# Altium footprint library EN-C200_RA0.PcbLib: 31 footprints (part 1 of 2)
Each footprint in its own frame and in the unit in brackets; x right, y up, seen from the top. Pads: shape width x height; smd on the part's side, far side on the other; paste and mask are expansions set on the pad; w line width, h text height; cw(c..) or ccw(c..) is an arc to the next point about the centre after c.
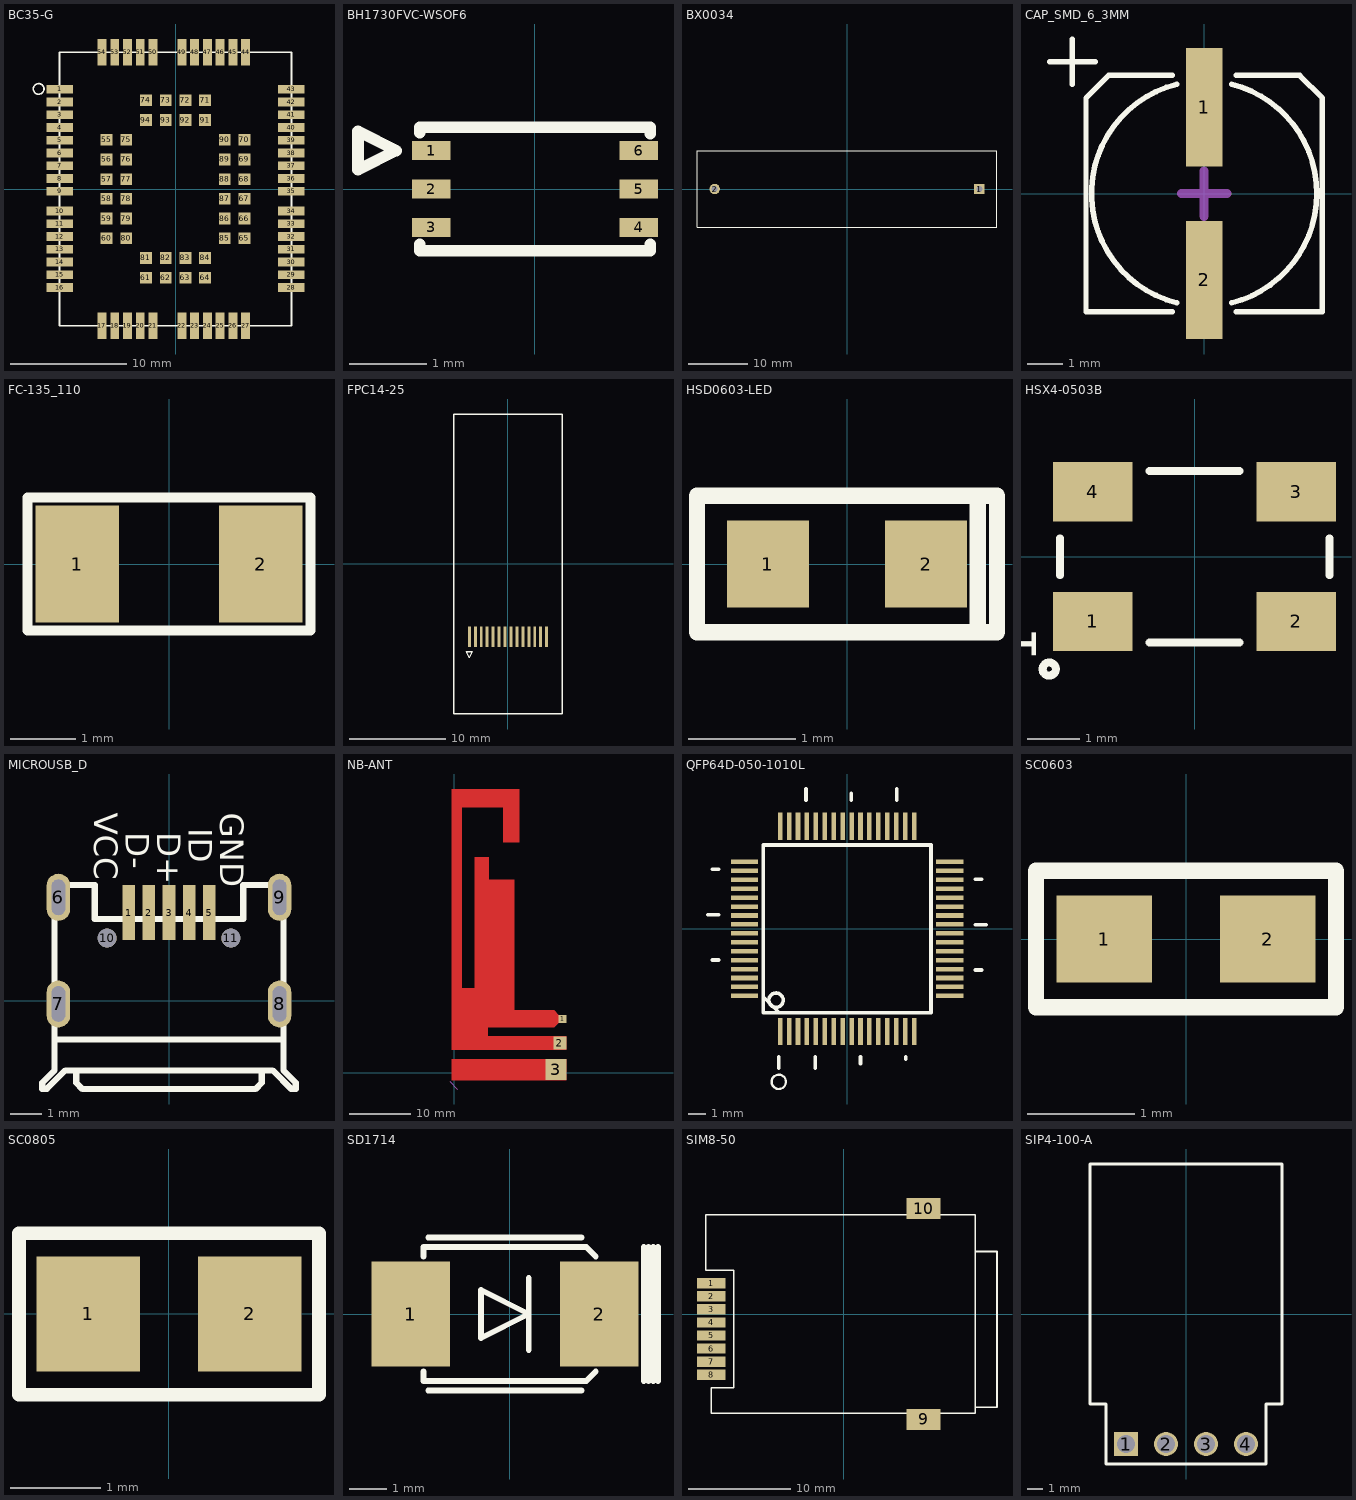
[diagram p0: the footprints below, top view; thin cyan lines are the x and y axes]

## BC35-G [mil] "BC35-G"
pads (94):
  rect 90x30 smd: 1(-393.7,338.58) 2(-393.7,295.28) 3(-393.7,251.97) 4(-393.7,208.66) 5(-393.7,165.35) 6(-393.7,122.05) 7(-393.7,78.74) 8(-393.7,35.43) 9(-393.7,-7.87) 10(-393.7,-74.8) 11(-393.7,-118.11) 12(-393.7,-161.42) 13(-393.7,-204.72) 14(-393.7,-248.03) 15(-393.7,-291.34) 16(-393.7,-334.65) 28(393.7,-334.65) 29(393.7,-291.34) 30(393.7,-248.03) 31(393.7,-204.72) 32(393.7,-161.42) 33(393.7,-118.11) 34(393.7,-74.8) 35(393.7,-7.87) 36(393.7,35.43) 37(393.7,78.74) 38(393.7,122.05) 39(393.7,165.35) 40(393.7,208.66) 41(393.7,251.97) 42(393.7,295.28) 43(393.7,338.58)
  rect 30x90 smd: 17(-250,-464.57) 18(-206.69,-464.57) 19(-163.39,-464.57) 20(-120.08,-464.57) 21(-76.77,-464.57) 22(21.65,-464.57) 23(64.96,-464.57) 24(108.27,-464.57) 25(151.57,-464.57) 26(194.88,-464.57) 27(238.19,-464.57) 44(238.19,464.57) 45(194.88,464.57) 46(151.57,464.57) 47(108.27,464.57) 48(64.96,464.57) 49(21.65,464.57) 50(-76.77,464.57) 51(-120.08,464.57) 52(-163.39,464.57) 53(-206.69,464.57) 54(-250,464.57)
  rect 40x40 smd: 55(-234.25,167.32) 56(-234.25,100.39) 57(-234.25,33.47) 58(-234.25,-33.47) 59(-234.25,-100.39) 60(-234.25,-167.32) 61(-100.39,-301.18) 62(-33.47,-301.18) 63(33.47,-301.18) 64(100.39,-301.18) 65(234.25,-167.32) 66(234.25,-100.39) 67(234.25,-33.47) 68(234.25,33.47) 69(234.25,100.39) 70(234.25,167.32) 71(100.39,301.18) 72(33.47,301.18) 73(-33.47,301.18) 74(-100.39,301.18) 75(-167.32,167.32) 76(-167.32,100.39) 77(-167.32,33.47) 78(-167.32,-33.47) 79(-167.32,-100.39) 80(-167.32,-167.32) 81(-100.39,-234.25) 82(-33.47,-234.25) 83(33.47,-234.25) 84(100.39,-234.25) 85(167.32,-167.32) 86(167.32,-100.39) 87(167.32,-33.47) 88(167.32,33.47) 89(167.32,100.39) 90(167.32,167.32) 91(100.39,234.25) 92(33.47,234.25) 93(-33.47,234.25) 94(-100.39,234.25)
Top Overlay:
  circle w6: c-465,340 r18.03
  lines w6: -393.7,-464.57 393.7,-464.57 393.7,464.57 -393.7,464.57 -393.7,-464.57

## BH1730FVC-WSOF6 [mm] "BH1730FVC-WSOF6"
pads (6):
  rect 0.5x0.25 smd: 1(-1.35,0.5) 2(-1.35,0) 3(-1.35,-0.5) 4(1.35,-0.5) 5(1.35,0) 6(1.35,0.5)
Top Overlay:
  lines w0.15: -1.5,-0.72 -1.5,-0.8 1.5,-0.8 1.5,-0.72 ; -1.5,0.73 -1.5,0.8 1.5,0.8 1.5,0.72 ; -2.3,0.25 -2.3,0.75 -1.8,0.5 -2.3,0.25

## BX0034 [mil] "BX0034"
pads (2):
  rect 70x70 / inner round 60 / far side round 60 hole 40: 1(885.83,0)
  round 70 / inner round 60 / far side round 60 hole 40: 2(-885.83,0)
Top Overlay:
  lines w6: -1003.94,-255.91 1003.94,-255.91 1003.94,255.91 -1003.94,255.91 -1003.94,-255.91

## CAP_SMD_6_3MM [mil] "CAP_SMD_6_3MM"
pads (2):
  rect 40x130 smd: 1(0,95) 2(0,-95)
Top Overlay:
  lines w6: -170,145 -120,145 ; -145,120 -145,170 ; -35,-130 -130,-130 -130,105 -105,130 -35,130 ; -30.07,-120.3 cw(c0,0) -30.07,120.3 ; 30.07,-120.3 ccw(c0,0) 124,0 ccw(c0,0) 30.07,120.3 ; 35,-130 130,-130 130,105 105,130 35,130
Mechanical 16:
  lines w10: -25,0 25,0 ; 0,-25 0,25

## FC-135_110 [mil] "FC-135_110"
pads (2):
  rect 50x70 smd: 1(-55,0) 2(55,0)
Top Overlay:
  lines w6: -85,-40 85,-40 85,40 -85,40 -85,-40

## FPC14-25 [mil] "FPC14-25"
pads (14):
  rect 12x85 smd: 1(-158.66,-300.2) 2(-134.25,-300.2) 3(-109.84,-300.2) 4(-85.43,-300.2) 5(-61.02,-300.2) 6(-36.61,-300.2) 7(-12.21,-300.2) 8(12.21,-300.2) 9(36.61,-300.2) 10(61.02,-300.2) 11(85.43,-300.2) 12(109.84,-300.2) 13(134.25,-300.2) 14(158.66,-300.2)
Top Overlay:
  lines w6: -222.05,-617.52 222.05,-617.52 222.05,615.16 -222.05,615.16 -222.05,-617.52 ; -170.87,-361.22 -146.46,-361.22 -158.66,-385.63 -170.87,-361.22

## HSD0603-LED [mil] "HSD0603-LED"
pads (2):
  rect 30x32 smd: 1(-29,0) 2(29,0)
Top Overlay:
  lines w6: 48,-25 48,25 ; -55,-25 -55,25 55,25 55,-25 -55,-25

## HSX4-0503B [mil] "HSX4-0503B"
pads (4):
  rect 60x45 smd: 1(-77,-49) 2(77,-49) 3(77,49) 4(-77,49)
Top Overlay:
  circle w6: c-110,-85 r5
  lines w6: -102,-14 -102,14 ; -34,-65 34,-65 ; -34,65 34,65 ; 102,-14 102,14
  text "1" at -120,-80 h30

## MICROUSB_D [mm] "MICROUSB_D"
pads (11):
  rect 0.406x1.778 smd: 1(-1.3,2.85) 2(-0.65,2.85) 3(0,2.85) 4(0.65,2.85) 5(1.3,2.85)
  oval 0.762x1.524 / inner round 1.524 / far side round 1.524 hole 1.15 slot 0.45 at 0 deg: 6(-3.575,3.35) 7(-3.575,-0.1) 8(3.575,-0.1) 9(3.575,3.35)
  round 0.61 / inner round 1.524 / far side round 1.524 hole 0.61 unplated: 10(-2,2.03) 11(2,2.03)
Top Overlay:
  lines w0.2: -3.7,3.75 -3.7,-2.25 -4.1,-2.65 -4.1,-2.85 -3.95,-2.85 -3.35,-2.25 3,-2.25
  lines w0.203: -3.7,-1.25 3.7,-1.25 ; -3.7,3.75 -2.4,3.75 -2.4,2.65 2.4,2.65 2.4,3.75 3.701,3.75 3.701,-2.251 4.101,-2.651 4.101,-2.851 3.951,-2.851 3.351,-2.251 3,-2.25 3,-2.65 2.8,-2.85 -2.8,-2.85 -3,-2.65 -3,-2.25
  text "VCC" at -2.413,6.09 h0.76
  text "ID" at 0.635,5.582 h0.76
  text "GND" at 1.651,6.09 h0.76
  text "D+" at -0.381,5.455 h0.76
  text "D-" at -1.397,5.455 h0.76

## NB-ANT [mil]
pads (3):
  rect 50x50 smd: 1(700,347)
  rect 84.65x84.65 smd: 2(682.5,191)
  rect 135.83x135.83 smd: 3(657,19)
Top Layer:
  region: -16.73,-49.15 -16.73,86.68 725,86.68 725,-49.15
  region: -16.73,148.88 -16.73,1833.13 419.09,1833.13 419.09,1487.86 316.73,1487.86 316.73,1716.2 47.05,1716.2 47.05,545.34 133.66,545.34 133.66,1391.01 224.21,1391.01 224.21,1246.91 386.42,1246.91 386.42,402.03 645.27,402.03 675,372.31 675,322.31 645.28,292.58 217.52,292.58 217.52,233.53 725,233.53 725,148.88
Mechanical 1:
  lines w1: -30,-56 20,-106

## QFP64D-050-1010L [mil] "QFP64D-050-1010L"
pads (64):
  rect 10x60 smd: 1(-147.64,-226.38) 2(-127.95,-226.38) 3(-108.27,-226.38) 4(-88.58,-226.38) 5(-68.9,-226.38) 6(-49.21,-226.38) 7(-29.53,-226.38) 8(-9.84,-226.38) 9(9.84,-226.38) 10(29.53,-226.38) 11(49.21,-226.38) 12(68.9,-226.38) 13(88.58,-226.38) 14(108.27,-226.38) 15(127.95,-226.38) 16(147.64,-226.38) 33(147.64,226.38) 34(127.95,226.38) 35(108.27,226.38) 36(88.58,226.38) 37(68.9,226.38) 38(49.21,226.38) 39(29.53,226.38) 40(9.84,226.38) 41(-9.84,226.38) 42(-29.53,226.38) 43(-49.21,226.38) 44(-68.9,226.38) 45(-88.58,226.38) 46(-108.27,226.38) 47(-127.95,226.38) 48(-147.64,226.38)
  rect 60x10 smd: 17(226.38,-147.64) 18(226.38,-127.95) 19(226.38,-108.27) 20(226.38,-88.58) 21(226.38,-68.9) 22(226.38,-49.21) 23(226.38,-29.53) 24(226.38,-9.84) 25(226.38,9.84) 26(226.38,29.53) 27(226.38,49.21) 28(226.38,68.9) 29(226.38,88.58) 30(226.38,108.27) 31(226.38,127.95) 32(226.38,147.64) 49(-226.38,147.64) 50(-226.38,127.95) 51(-226.38,108.27) 52(-226.38,88.58) 53(-226.38,68.9) 54(-226.38,49.21) 55(-226.38,29.53) 56(-226.38,9.84) 57(-226.38,-9.84) 58(-226.38,-29.53) 59(-226.38,-49.21) 60(-226.38,-68.9) 61(-226.38,-88.58) 62(-226.38,-108.27) 63(-226.38,-127.95) 64(-226.38,-147.64)
Top Overlay:
  circle w8: c-156.68,-157.16 r15.81
  circle w5: c-150.55,-337.16 r15.81
  lines w8: -307.59,31.55 -282.59,31.55 ; -297.59,-68.45 -282.59,-68.45 ; -297.59,131.55 -282.59,131.55 ; -185.04,-149.56 -149.67,-185.04 ; -150.55,-307.16 -150.55,-282.16 ; -90.57,283.41 -90.57,308.41 ; -70.55,-307.16 -70.55,-282.16 ; 9.43,283.41 9.43,298.41 ; 29.45,-297.16 29.45,-282.16 ; 109.43,283.41 109.43,308.41 ; 129.45,-287.16 129.45,-282.16 ; 282.13,-90.54 297.13,-90.54 ; 282.13,9.46 307.13,9.46 ; 282.13,109.46 297.13,109.46 ; -185.04,-185.04 -185.04,185.04 185.04,185.04 185.04,-185.04 -185.04,-185.04

## SC0603 [mil] "SC0603"
pads (2):
  rect 35x32 smd: 1(-30,0) 2(30,0)
Top Overlay:
  lines w6: -55,-25 -55,25 55,25 55,-25 -55,-25

## SC0805 [mil] "SC0805"
pads (2):
  rect 45x50 smd: 1(-35,0) 2(35,0)
Top Overlay:
  lines w6: -65,-35 -65,35 65,35 65,30 65,-35 -65,-35

## SD1714 [mil] "SD1714"
pads (2):
  rect 82x110 smd: 1(-103.5,0) 2(93.5,0)
Top Overlay:
  lines w6: -90,-60 -90,-70 80,-70 90,-60 ; -90,60 -90,70 80,70 90,60 ; -85,-80 75,-80 ; -85,80 75,80 ; 20,-37.5 20,37.5 ; 140,-70 140,70 ; 145,-70 145,70 ; 150,-70 150,70 ; 155,-70 155,70 ; -30,-25 -30,25 20,0 -30,-25

## SIM8-50 [mil] "SIM8-50"
pads (10):
  rect 110x40 smd: 1(-508.86,118.31) 2(-508.86,68.31) 3(-508.86,18.31) 4(-508.86,-31.69) 5(-508.86,-81.69) 6(-508.86,-131.69) 7(-508.86,-181.69) 8(-508.86,-231.69)
  rect 130x80 smd: 9(306.1,-403.74) 10(306.1,405.31)
Top Overlay:
  lines w6: 508.86,-357.68 587.6,-357.68 587.6,240.75 508.86,240.75 ; -530.51,168.31 -422.24,168.31 -422.24,-281.69 -508.86,-281.69 -508.86,-380.12 504.92,-380.12 504.92,381.69 -530.51,381.69 -530.51,168.31

## SIP4-100-A [mil] "SIP4-100-A"
pads (4):
  rect 60x60 / inner round 60 / far side round 60 hole 45: 1(-150,-325)
  round 60 hole 45: 2(-50,-325) 3(50,-325) 4(150,-325)
Top Overlay:
  lines w8: -240,-225 -200,-225 -200,-375 200,-375 200,-225 240,-225 240,375 -240,375 -240,-225